# Altium footprint library Connector_PinSocket_1.00mm.PcbLib: 156 footprints (part 1 of 10)
Each footprint in its own frame and in the unit in brackets; x right, y up, seen from the top. Pads: shape width x height; smd on the part's side, far side on the other; paste and mask are expansions set on the pad; w line width, h text height; cw(c..) or ccw(c..) is an arc to the next point about the centre after c.
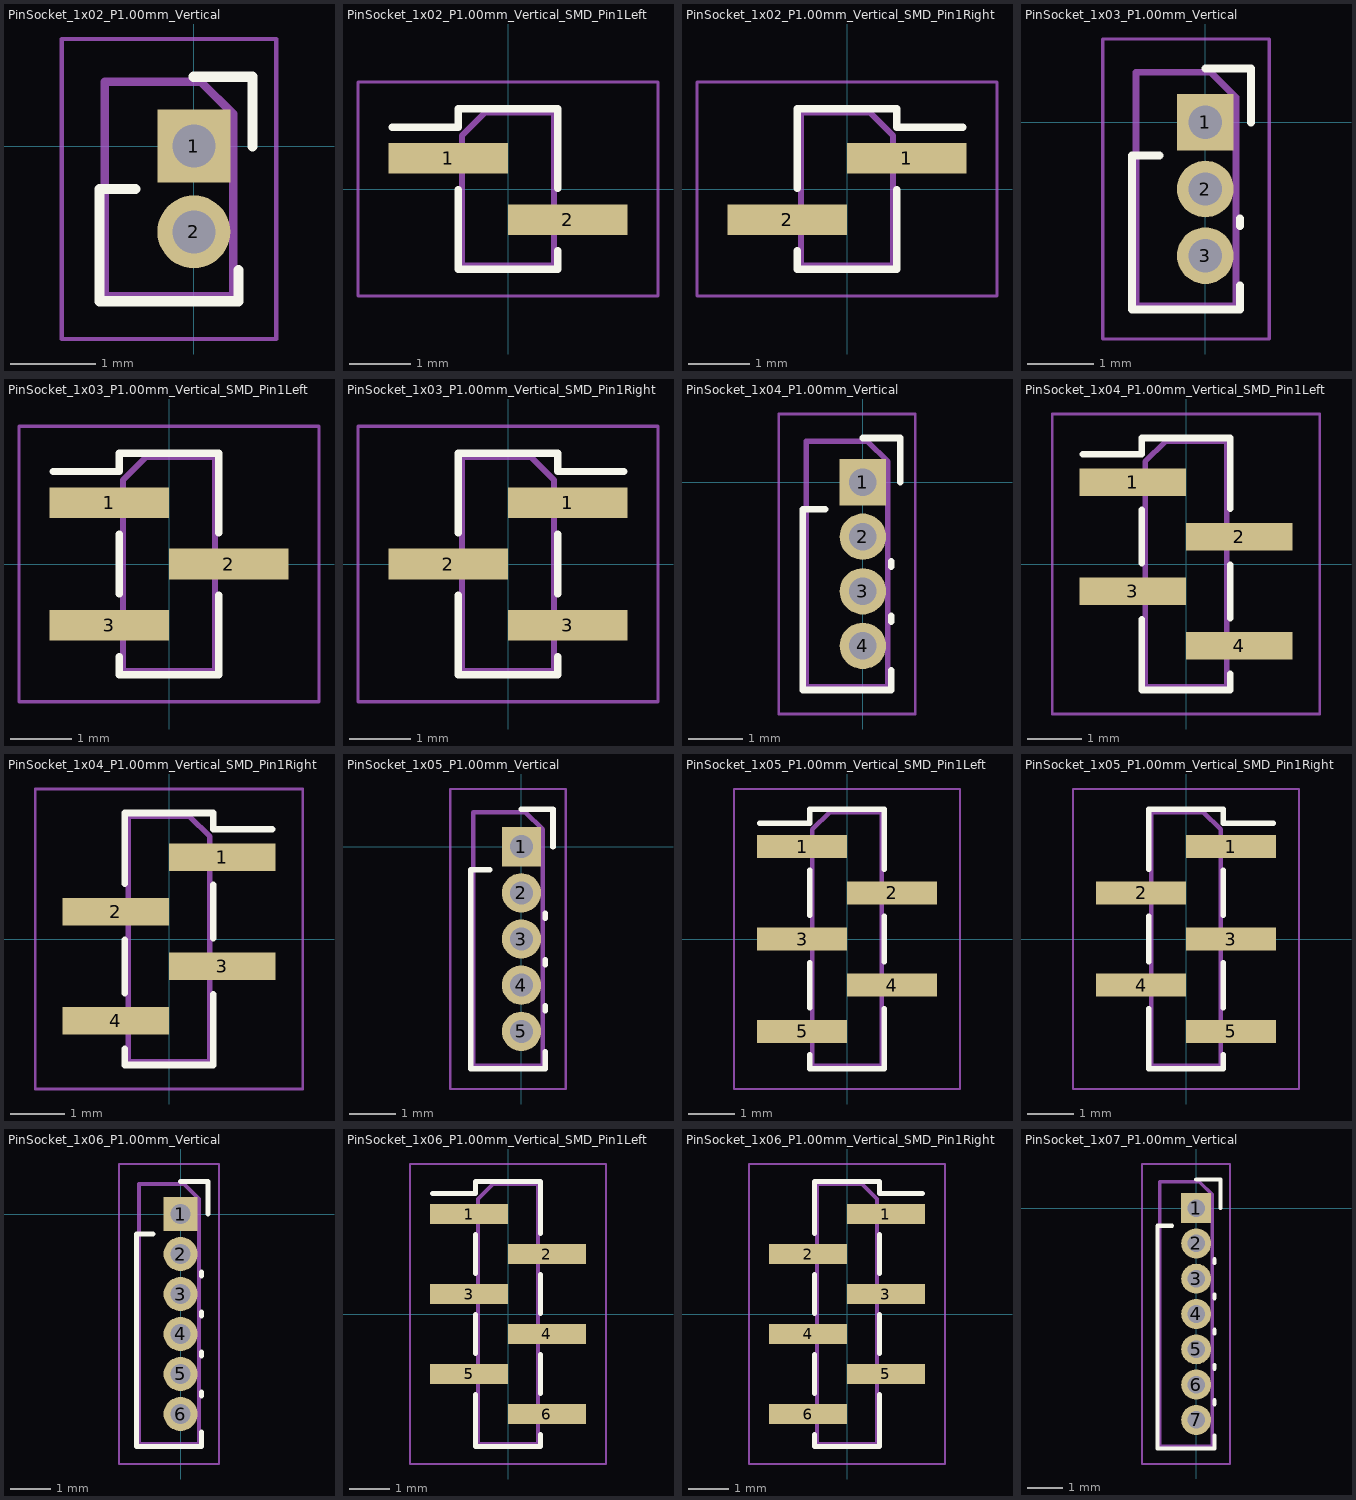
[diagram p0: the footprints below, top view; thin cyan lines are the x and y axes]

## PinSocket_1x02_P1.00mm_Vertical [mm]
pads (2):
  rect 0.85x0.85 hole 0.5: 1(0,0)
  rrect100% 0.85x0.85 hole 0.5: 2(0,-1)
F.SilkS:
  lines w0.12: -0.685,-0.5 -1.1,-0.5 -1.1,-1.81 0.52,-1.81 0.52,-1.446 ; 0,0.81 0.685,0.81 0.685,0
F.CrtYd:
  lines w0.05: -1.54,-2.25 0.96,-2.25 0.96,1.25 -1.54,1.25 -1.54,-2.25
F.Fab:
  lines w0.1: -1.04,-1.75 0.46,-1.75 0.46,0.375 0.085,0.75 -1.04,0.75 -1.04,-1.75
  text "'.Designator'" at 0.471,-4.147 h0.9

## PinSocket_1x02_P1.00mm_Vertical_SMD_Pin1Left [mm]
pads (2):
  rect 1.95x0.5 smd: 1(-0.975,0.5) 2(0.975,-0.5)
F.SilkS:
  lines w0.12: -1.89,1.01 -0.81,1.01 -0.81,1.31 0.81,1.31 0.81,0.01 ; -0.81,-0.01 -0.81,-1.31 0.81,-1.31 0.81,-1.01
F.CrtYd:
  lines w0.05: -2.45,-1.75 -2.45,1.75 2.45,1.75 2.45,-1.75 -2.45,-1.75
F.Fab:
  lines w0.1: -0.75,0.35 -1.45,0.35 -1.45,0.65 -0.75,0.65 ; 0.75,-0.65 1.45,-0.65 1.45,-0.35 0.75,-0.35 ; -0.75,-1.25 0.75,-1.25 0.75,1.25 -0.375,1.25 -0.75,0.875 -0.75,-1.25
  text "'.Designator'" at 0.761,-3.647 h0.9

## PinSocket_1x02_P1.00mm_Vertical_SMD_Pin1Right [mm]
pads (2):
  rect 1.95x0.5 smd: 1(0.975,0.5) 2(-0.975,-0.5)
F.SilkS:
  lines w0.12: -0.81,-1.01 -0.81,-1.31 0.81,-1.31 0.81,-0.01 ; -0.81,0.01 -0.81,1.31 0.81,1.31 0.81,1.01 1.89,1.01
F.CrtYd:
  lines w0.05: -2.45,-1.75 2.45,-1.75 2.45,1.75 -2.45,1.75 -2.45,-1.75
F.Fab:
  lines w0.1: -0.75,-0.65 -1.45,-0.65 -1.45,-0.35 -0.75,-0.35 ; 0.75,0.35 1.45,0.35 1.45,0.65 0.75,0.65 ; -0.75,-1.25 0.75,-1.25 0.75,0.875 0.375,1.25 -0.75,1.25 -0.75,-1.25
  text "'.Designator'" at 0.761,-3.647 h0.9

## PinSocket_1x03_P1.00mm_Vertical [mm]
pads (3):
  rect 0.85x0.85 hole 0.5: 1(0,0)
  rrect100% 0.85x0.85 hole 0.5: 2(0,-1) 3(0,-2)
F.SilkS:
  lines w0.12: -0.685,-0.5 -1.1,-0.5 -1.1,-2.81 0.52,-2.81 0.52,-2.446 ; 0,0.81 0.685,0.81 0.685,0 ; 0.52,-1.554 0.52,-1.446
F.CrtYd:
  lines w0.05: -1.54,-3.25 -1.54,1.25 0.96,1.25 0.96,-3.25 -1.54,-3.25
F.Fab:
  lines w0.1: -1.04,-2.75 -1.04,0.75 0.085,0.75 0.46,0.375 0.46,-2.75 -1.04,-2.75
  text "'.Designator'" at 0.471,-4.647 h0.9

## PinSocket_1x03_P1.00mm_Vertical_SMD_Pin1Left [mm]
pads (3):
  rect 1.95x0.5 smd: 1(-0.975,1) 2(0.975,0) 3(-0.975,-1)
F.SilkS:
  lines w0.12: -1.89,1.51 -0.81,1.51 -0.81,1.81 0.81,1.81 0.81,0.51 ; -0.81,-1.51 -0.81,-1.81 0.81,-1.81 0.81,-0.51 ; -0.81,-0.49 -0.81,0.49
F.CrtYd:
  lines w0.05: -2.45,-2.25 -2.45,2.25 2.45,2.25 2.45,-2.25 -2.45,-2.25
F.Fab:
  lines w0.1: -0.75,-1.15 -1.45,-1.15 -1.45,-0.85 -0.75,-0.85 ; -0.75,0.85 -1.45,0.85 -1.45,1.15 -0.75,1.15 ; 0.75,-0.15 1.45,-0.15 1.45,0.15 0.75,0.15 ; -0.75,-1.75 0.75,-1.75 0.75,1.75 -0.375,1.75 -0.75,1.375 -0.75,-1.75
  text "'.Designator'" at 0.761,-3.647 h0.9

## PinSocket_1x03_P1.00mm_Vertical_SMD_Pin1Right [mm]
pads (3):
  rect 1.95x0.5 smd: 1(0.975,1) 2(-0.975,0) 3(0.975,-1)
F.SilkS:
  lines w0.12: -0.81,-0.51 -0.81,-1.81 0.81,-1.81 0.81,-1.51 ; -0.81,0.51 -0.81,1.81 0.81,1.81 0.81,1.51 1.89,1.51 ; 0.81,-0.49 0.81,0.49
F.CrtYd:
  lines w0.05: -2.45,-2.25 -2.45,2.25 2.45,2.25 2.45,-2.25 -2.45,-2.25
F.Fab:
  lines w0.1: -0.75,-0.15 -1.45,-0.15 -1.45,0.15 -0.75,0.15 ; 0.75,-1.15 1.45,-1.15 1.45,-0.85 0.75,-0.85 ; 0.75,0.85 1.45,0.85 1.45,1.15 0.75,1.15 ; -0.75,-1.75 -0.75,1.75 0.375,1.75 0.75,1.375 0.75,-1.75 -0.75,-1.75
  text "'.Designator'" at 0.761,-3.647 h0.9

## PinSocket_1x04_P1.00mm_Vertical [mm]
pads (4):
  rect 0.85x0.85 hole 0.5: 1(0,0)
  rrect100% 0.85x0.85 hole 0.5: 2(0,-1) 3(0,-2) 4(0,-3)
F.SilkS:
  lines w0.12: -0.685,-0.5 -1.1,-0.5 -1.1,-3.81 0.52,-3.81 0.52,-3.446 ; 0,0.81 0.685,0.81 0.685,0 ; 0.52,-2.554 0.52,-2.446 ; 0.52,-1.554 0.52,-1.446
F.CrtYd:
  lines w0.05: -1.54,-4.25 -1.54,1.25 0.96,1.25 0.96,-4.25 -1.54,-4.25
F.Fab:
  lines w0.1: -1.04,-3.75 0.46,-3.75 0.46,0.375 0.085,0.75 -1.04,0.75 -1.04,-3.75
  text "'.Designator'" at 0.471,-5.147 h0.9

## PinSocket_1x04_P1.00mm_Vertical_SMD_Pin1Left [mm]
pads (4):
  rect 1.95x0.5 smd: 1(-0.975,1.5) 2(0.975,0.5) 3(-0.975,-0.5) 4(0.975,-1.5)
F.SilkS:
  lines w0.12: -1.89,2.01 -0.81,2.01 -0.81,2.31 0.81,2.31 0.81,1.01 ; -0.81,-1.01 -0.81,-2.31 0.81,-2.31 0.81,-2.01 ; -0.81,0.01 -0.81,0.99 ; 0.81,-0.99 0.81,-0.01
F.CrtYd:
  lines w0.05: -2.45,-2.75 2.45,-2.75 2.45,2.75 -2.45,2.75 -2.45,-2.75
F.Fab:
  lines w0.1: -0.75,-0.65 -1.45,-0.65 -1.45,-0.35 -0.75,-0.35 ; -0.75,1.35 -1.45,1.35 -1.45,1.65 -0.75,1.65 ; 0.75,-1.65 1.45,-1.65 1.45,-1.35 0.75,-1.35 ; 0.75,0.35 1.45,0.35 1.45,0.65 0.75,0.65 ; -0.75,-2.25 0.75,-2.25 0.75,2.25 -0.375,2.25 -0.75,1.875 -0.75,-2.25
  text "'.Designator'" at 0.761,-3.647 h0.9

## PinSocket_1x04_P1.00mm_Vertical_SMD_Pin1Right [mm]
pads (4):
  rect 1.95x0.5 smd: 1(0.975,1.5) 2(-0.975,0.5) 3(0.975,-0.5) 4(-0.975,-1.5)
F.SilkS:
  lines w0.12: -0.81,-2.01 -0.81,-2.31 0.81,-2.31 0.81,-1.01 ; -0.81,-0.99 -0.81,-0.01 ; -0.81,1.01 -0.81,2.31 0.81,2.31 0.81,2.01 1.89,2.01 ; 0.81,0.01 0.81,0.99
F.CrtYd:
  lines w0.05: -2.45,-2.75 2.45,-2.75 2.45,2.75 -2.45,2.75 -2.45,-2.75
F.Fab:
  lines w0.1: -0.75,-1.65 -1.45,-1.65 -1.45,-1.35 -0.75,-1.35 ; -0.75,0.35 -1.45,0.35 -1.45,0.65 -0.75,0.65 ; 0.75,-0.65 1.45,-0.65 1.45,-0.35 0.75,-0.35 ; 0.75,1.35 1.45,1.35 1.45,1.65 0.75,1.65 ; -0.75,-2.25 0.75,-2.25 0.75,1.875 0.375,2.25 -0.75,2.25 -0.75,-2.25
  text "'.Designator'" at 0.761,-3.647 h0.9

## PinSocket_1x05_P1.00mm_Vertical [mm]
pads (5):
  rect 0.85x0.85 hole 0.5: 1(0,0)
  rrect100% 0.85x0.85 hole 0.5: 2(0,-1) 3(0,-2) 4(0,-3) 5(0,-4)
F.SilkS:
  lines w0.12: -0.685,-0.5 -1.1,-0.5 -1.1,-4.81 0.52,-4.81 0.52,-4.446 ; 0,0.81 0.685,0.81 0.685,0 ; 0.52,-3.554 0.52,-3.446 ; 0.52,-2.554 0.52,-2.446 ; 0.52,-1.554 0.52,-1.446
F.CrtYd:
  lines w0.05: -1.54,-5.25 0.96,-5.25 0.96,1.25 -1.54,1.25 -1.54,-5.25
F.Fab:
  lines w0.1: -1.04,-4.75 0.46,-4.75 0.46,0.375 0.085,0.75 -1.04,0.75 -1.04,-4.75
  text "'.Designator'" at 0.471,-5.647 h0.9

## PinSocket_1x05_P1.00mm_Vertical_SMD_Pin1Left [mm]
pads (5):
  rect 1.95x0.5 smd: 1(-0.975,2) 2(0.975,1) 3(-0.975,0) 4(0.975,-1) 5(-0.975,-2)
F.SilkS:
  lines w0.12: -1.89,2.51 -0.81,2.51 -0.81,2.81 0.81,2.81 0.81,1.51 ; -0.81,-2.51 -0.81,-2.81 0.81,-2.81 0.81,-1.51 ; -0.81,-1.49 -0.81,-0.51 ; -0.81,0.51 -0.81,1.49 ; 0.81,-0.49 0.81,0.49
F.CrtYd:
  lines w0.05: -2.45,-3.25 -2.45,3.25 2.45,3.25 2.45,-3.25 -2.45,-3.25
F.Fab:
  lines w0.1: -0.75,-2.15 -1.45,-2.15 -1.45,-1.85 -0.75,-1.85 ; -0.75,-0.15 -1.45,-0.15 -1.45,0.15 -0.75,0.15 ; -0.75,1.85 -1.45,1.85 -1.45,2.15 -0.75,2.15 ; 0.75,-1.15 1.45,-1.15 1.45,-0.85 0.75,-0.85 ; 0.75,0.85 1.45,0.85 1.45,1.15 0.75,1.15 ; -0.75,-2.75 0.75,-2.75 0.75,2.75 -0.375,2.75 -0.75,2.375 -0.75,-2.75
  text "'.Designator'" at 0.761,-3.647 h0.9

## PinSocket_1x05_P1.00mm_Vertical_SMD_Pin1Right [mm]
pads (5):
  rect 1.95x0.5 smd: 1(0.975,2) 2(-0.975,1) 3(0.975,0) 4(-0.975,-1) 5(0.975,-2)
F.SilkS:
  lines w0.12: -0.81,-1.51 -0.81,-2.81 0.81,-2.81 0.81,-2.51 ; -0.81,-0.49 -0.81,0.49 ; -0.81,1.51 -0.81,2.81 0.81,2.81 0.81,2.51 1.89,2.51 ; 0.81,-1.49 0.81,-0.51 ; 0.81,0.51 0.81,1.49
F.CrtYd:
  lines w0.05: -2.45,-3.25 -2.45,3.25 2.45,3.25 2.45,-3.25 -2.45,-3.25
F.Fab:
  lines w0.1: -0.75,-1.15 -1.45,-1.15 -1.45,-0.85 -0.75,-0.85 ; -0.75,0.85 -1.45,0.85 -1.45,1.15 -0.75,1.15 ; 0.75,-2.15 1.45,-2.15 1.45,-1.85 0.75,-1.85 ; 0.75,-0.15 1.45,-0.15 1.45,0.15 0.75,0.15 ; 0.75,1.85 1.45,1.85 1.45,2.15 0.75,2.15 ; -0.75,-2.75 0.75,-2.75 0.75,2.375 0.375,2.75 -0.75,2.75 -0.75,-2.75
  text "'.Designator'" at 0.761,-3.647 h0.9

## PinSocket_1x06_P1.00mm_Vertical [mm]
pads (6):
  rect 0.85x0.85 hole 0.5: 1(0,0)
  rrect100% 0.85x0.85 hole 0.5: 2(0,-1) 3(0,-2) 4(0,-3) 5(0,-4) 6(0,-5)
F.SilkS:
  lines w0.12: -0.685,-0.5 -1.1,-0.5 -1.1,-5.81 0.52,-5.81 0.52,-5.446 ; 0,0.81 0.685,0.81 0.685,0 ; 0.52,-4.554 0.52,-4.446 ; 0.52,-3.554 0.52,-3.446 ; 0.52,-2.554 0.52,-2.446 ; 0.52,-1.554 0.52,-1.446
F.CrtYd:
  lines w0.05: -1.54,-6.25 0.96,-6.25 0.96,1.25 -1.54,1.25 -1.54,-6.25
F.Fab:
  lines w0.1: -1.04,-5.75 0.46,-5.75 0.46,0.375 0.085,0.75 -1.04,0.75 -1.04,-5.75
  text "'.Designator'" at 0.471,-6.147 h0.9

## PinSocket_1x06_P1.00mm_Vertical_SMD_Pin1Left [mm]
pads (6):
  rect 1.95x0.5 smd: 1(-0.975,2.5) 2(0.975,1.5) 3(-0.975,0.5) 4(0.975,-0.5) 5(-0.975,-1.5) 6(0.975,-2.5)
F.SilkS:
  lines w0.12: -1.89,3.01 -0.81,3.01 -0.81,3.31 0.81,3.31 0.81,2.01 ; -0.81,-2.01 -0.81,-3.31 0.81,-3.31 0.81,-3.01 ; -0.81,-0.99 -0.81,-0.01 ; -0.81,1.01 -0.81,1.99 ; 0.81,-1.99 0.81,-1.01 ; 0.81,0.01 0.81,0.99
F.CrtYd:
  lines w0.05: -2.45,-3.75 -2.45,3.75 2.45,3.75 2.45,-3.75 -2.45,-3.75
F.Fab:
  lines w0.1: -0.75,-1.65 -1.45,-1.65 -1.45,-1.35 -0.75,-1.35 ; -0.75,0.35 -1.45,0.35 -1.45,0.65 -0.75,0.65 ; -0.75,2.35 -1.45,2.35 -1.45,2.65 -0.75,2.65 ; 0.75,-2.65 1.45,-2.65 1.45,-2.35 0.75,-2.35 ; 0.75,-0.65 1.45,-0.65 1.45,-0.35 0.75,-0.35 ; 0.75,1.35 1.45,1.35 1.45,1.65 0.75,1.65 ; -0.75,-3.25 0.75,-3.25 0.75,3.25 -0.375,3.25 -0.75,2.875 -0.75,-3.25
  text "'.Designator'" at 0.761,-3.647 h0.9

## PinSocket_1x06_P1.00mm_Vertical_SMD_Pin1Right [mm]
pads (6):
  rect 1.95x0.5 smd: 1(0.975,2.5) 2(-0.975,1.5) 3(0.975,0.5) 4(-0.975,-0.5) 5(0.975,-1.5) 6(-0.975,-2.5)
F.SilkS:
  lines w0.12: -0.81,-3.01 -0.81,-3.31 0.81,-3.31 0.81,-2.01 ; -0.81,-1.99 -0.81,-1.01 ; -0.81,0.01 -0.81,0.99 ; -0.81,2.01 -0.81,3.31 0.81,3.31 0.81,3.01 1.89,3.01 ; 0.81,-0.99 0.81,-0.01 ; 0.81,1.01 0.81,1.99
F.CrtYd:
  lines w0.05: -2.45,-3.75 -2.45,3.75 2.45,3.75 2.45,-3.75 -2.45,-3.75
F.Fab:
  lines w0.1: -0.75,-2.65 -1.45,-2.65 -1.45,-2.35 -0.75,-2.35 ; -0.75,-0.65 -1.45,-0.65 -1.45,-0.35 -0.75,-0.35 ; -0.75,1.35 -1.45,1.35 -1.45,1.65 -0.75,1.65 ; 0.75,-1.65 1.45,-1.65 1.45,-1.35 0.75,-1.35 ; 0.75,0.35 1.45,0.35 1.45,0.65 0.75,0.65 ; 0.75,2.35 1.45,2.35 1.45,2.65 0.75,2.65 ; -0.75,-3.25 0.75,-3.25 0.75,2.875 0.375,3.25 -0.75,3.25 -0.75,-3.25
  text "'.Designator'" at 0.761,-3.647 h0.9

## PinSocket_1x07_P1.00mm_Vertical [mm]
pads (7):
  rect 0.85x0.85 hole 0.5: 1(0,0)
  rrect100% 0.85x0.85 hole 0.5: 2(0,-1) 3(0,-2) 4(0,-3) 5(0,-4) 6(0,-5) 7(0,-6)
F.SilkS:
  lines w0.12: -0.685,-0.5 -1.1,-0.5 -1.1,-6.81 0.52,-6.81 0.52,-6.446 ; 0,0.81 0.685,0.81 0.685,0 ; 0.52,-5.554 0.52,-5.446 ; 0.52,-4.554 0.52,-4.446 ; 0.52,-3.554 0.52,-3.446 ; 0.52,-2.554 0.52,-2.446 ; 0.52,-1.554 0.52,-1.446
F.CrtYd:
  lines w0.05: -1.54,-7.25 0.96,-7.25 0.96,1.25 -1.54,1.25 -1.54,-7.25
F.Fab:
  lines w0.1: -1.04,-6.75 0.46,-6.75 0.46,0.375 0.085,0.75 -1.04,0.75 -1.04,-6.75
  text "'.Designator'" at 0.471,-6.647 h0.9